# EAGLE library part NOKIA6100_LCD_CON (library lcd_nokia_6100)
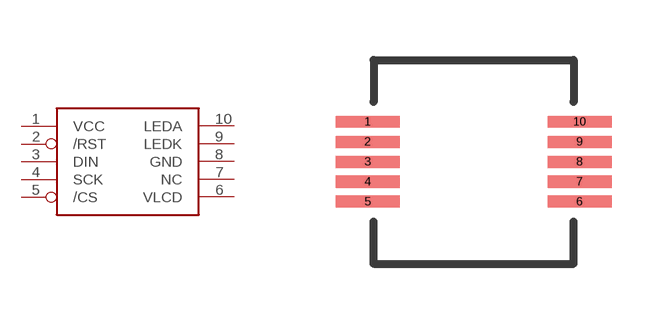
[diagram p1: symbol with the pads of DF23C-10DS-0.5V; footprint DF23C-10DS-0.5V]

Designator prefix LCD

## NOKIA6100_LCD_CON  [DF23C-10DS-0.5V]
1  VCC  pwr
2  /RST  in
3  DIN  in
4  SCK  in
5  /CS  in
6  VLCD  pwr
7  NC  nc
8  GND  pwr
9  LEDK  pas
10  LEDA  pas

## Footprint DF23C-10DS-0.5V (pad centres in mm)
smd 1.6 x 0.3: 1 -2.65,1; 2 -2.65,0.5; 3 -2.65,0; 4 -2.65,-0.5; 5 -2.65,-1; 6 2.65,-1; 7 2.65,-0.5; 8 2.65,0; 9 2.65,0.5; 10 2.65,1